# Altium footprint library EM411-202401-RMC001-000-20240213-T10.PcbLib: 39 footprints (part 2 of 3)
Each footprint in its own frame and in the unit in brackets; x right, y up, seen from the top. Pads: shape width x height; smd on the part's side, far side on the other; paste and mask are expansions set on the pad; w line width, h text height; cw(c..) or ccw(c..) is an arc to the next point about the centre after c.
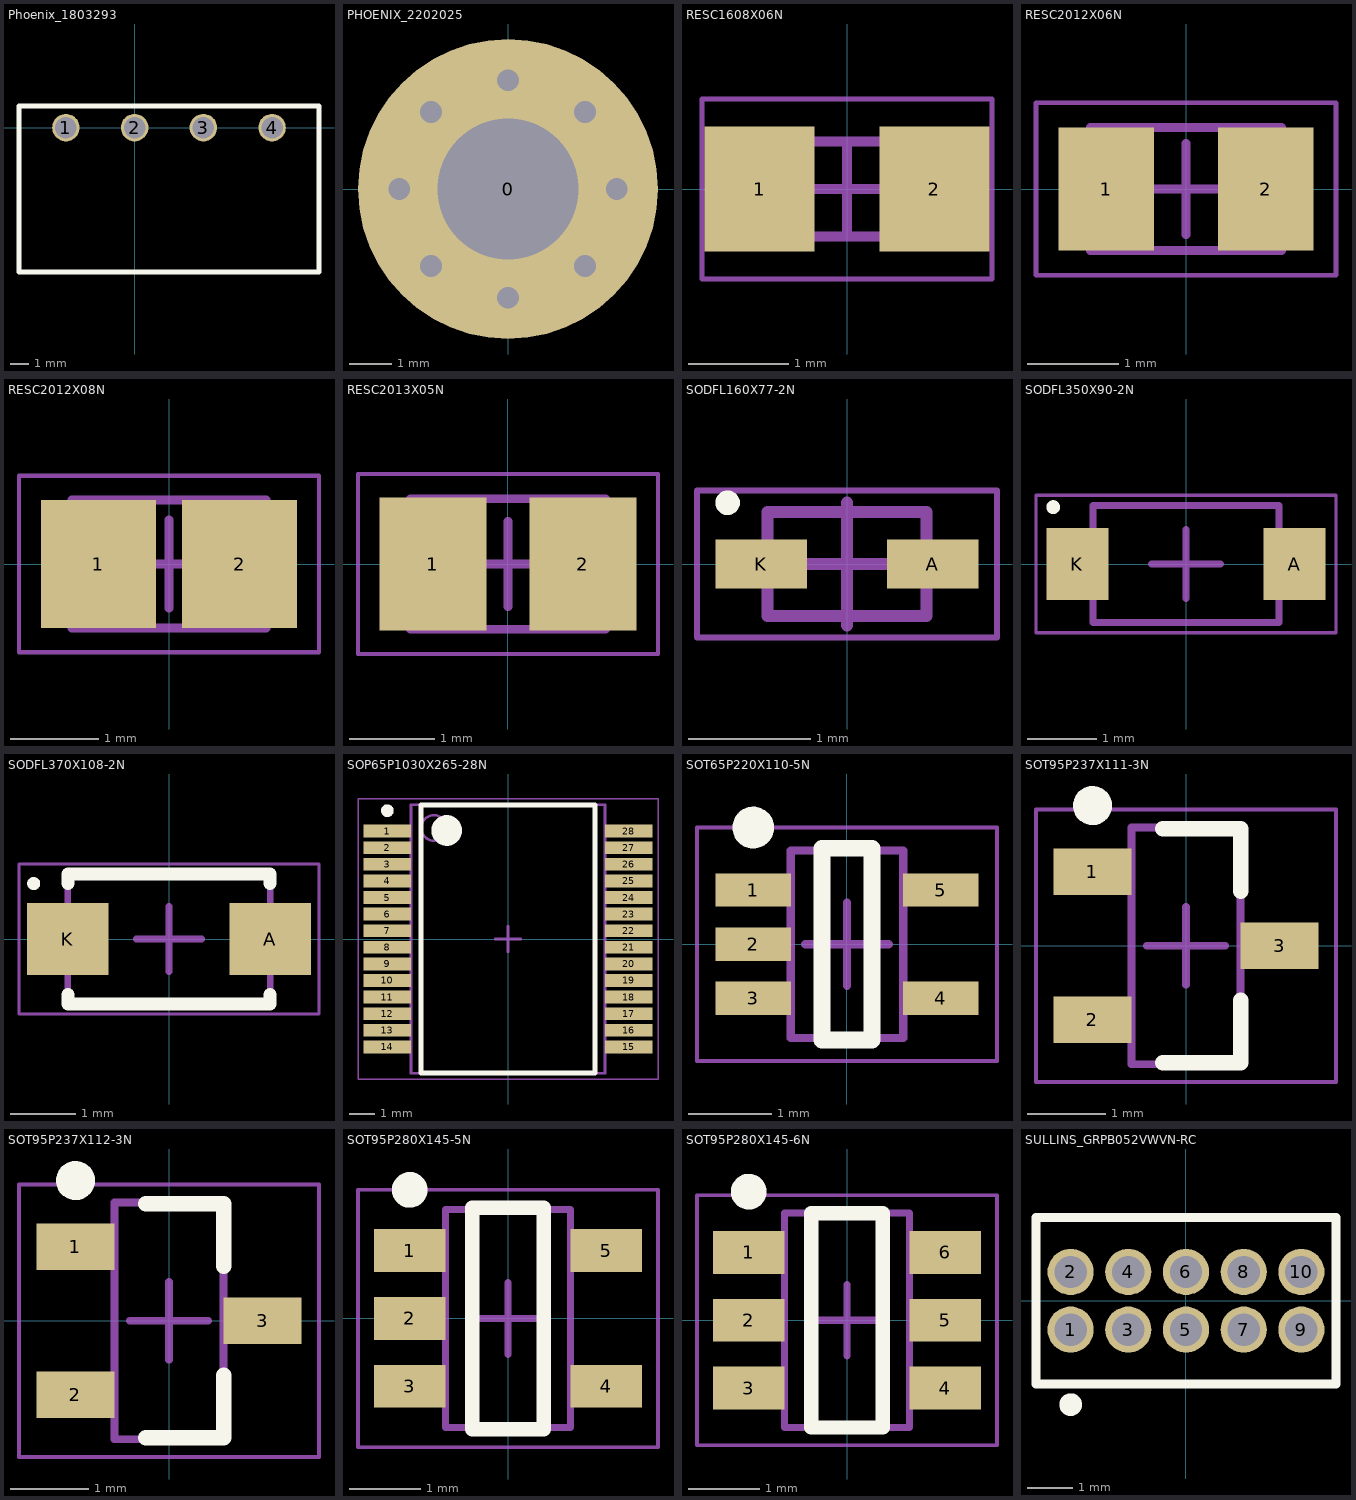
[diagram p1: the footprints below, top view; thin cyan lines are the x and y axes]

## Phoenix_1803293 [mil]
pads (4):
  round 60 hole 47.24: 1(-150,0) 2(0,0) 3(150,0) 4(300,0)
Top Overlay:
  lines w10: -252.36,-314.96 -252.36,47.24 402.36,47.24 402.36,-314.96 -252.36,-314.96
3D body "pxc_1803293_05_01_MC-1-5-4-G-3-81_3D.stp": height 285.43, standoff -133.86, extent -251.57,-315.94 403.15,46.26

## PHOENIX_2202025 [mm] "PE Contact Level 1"
height 8
pads (1):
  round 7 hole 3.3: 0(0,0)
via 0,2.54 diameter 1.016 hole 0.508
via 1.796,1.796 diameter 1.016 hole 0.508
via -2.54,0 diameter 1.016 hole 0.508
via -1.796,1.796 diameter 1.016 hole 0.508
via 0,-2.54 diameter 1.016 hole 0.508
via -1.796,-1.796 diameter 1.016 hole 0.508
via 2.54,0 diameter 1.016 hole 0.508
via 1.796,-1.796 diameter 1.016 hole 0.508

## RESC1608X06N [mm] "Chip Resistor, 2-Leads, Body 1.60x0.85mm, IPC Medium Density"
height 0.55
pads (2):
  rect 1.1x1.25 smd: 1(-0.875,0) 2(0.875,0)
Top Courtyard:
  lines w0.05: -1.45,-0.9 1.45,-0.9 1.45,0.9 -1.45,0.9 -1.45,-0.9
  lines w0.1: -0.475,0 0.475,0 ; 0,-0.475 0,0.475
Mechanical 13:
  lines w0.1: -0.85,-0.475 0.85,-0.475 0.85,0.475 -0.85,0.475 -0.85,-0.475
3D body "RESC1608X06N.step": height 0.55, standoff 0, extent -0.85,-0.475 0.85,0.475

## RESC2012X06N [mm] "Chip Resistor, 2-Leads, Body 2.00x1.25mm, IPC Medium Density"
height 0.6
pads (2):
  rect 1.05x1.35 smd: 1(-0.875,0) 2(0.875,0)
Top Courtyard:
  lines w0.05: -1.65,-0.95 -1.65,0.95 1.65,0.95 1.65,-0.95 -1.65,-0.95
  lines w0.1: -0.5,0 0.5,0 ; 0,-0.5 0,0.5
Mechanical 13:
  lines w0.1: -1.05,-0.675 -1.05,0.675 1.05,0.675 1.05,-0.675 -1.05,-0.675
3D body "RESC2012X06N.step": height 0.6, standoff 0, extent -1.05,-0.675 1.05,0.675

## RESC2012X08N [mm] "Chip Resistor, 2-Leads, Body 2.00x1.25mm, IPC Medium Density"
height 0.75
pads (2):
  rect 1.3x1.45 smd: 1(-0.8,0) 2(0.8,0)
Top Courtyard:
  lines w0.05: -1.7,-1 -1.7,1 1.7,1 1.7,-1 -1.7,-1
  lines w0.1: -0.5,0 0.5,0 ; 0,-0.5 0,0.5
Mechanical 13:
  lines w0.1: -1.1,-0.725 -1.1,0.725 1.1,0.725 1.1,-0.725 -1.1,-0.725
3D body "RESC2012X08N.step": height 0.75, standoff 0, extent -1.1,-0.725 1.1,0.725

## RESC2013X05N [mm] "Chip Resistor, 2-Leads, Body 2.03x1.32mm, IPC Medium Density"
height 0.54
pads (2):
  rect 1.25x1.55 smd: 1(-0.875,0) 2(0.875,0)
Top Courtyard:
  lines w0.05: -1.75,-1.05 1.75,-1.05 1.75,1.05 -1.75,1.05 -1.75,-1.05
  lines w0.1: -0.5,0 0.5,0 ; 0,-0.5 0,0.5
Mechanical 13:
  lines w0.1: -1.14,-0.76 1.14,-0.76 1.14,0.76 -1.14,0.76 -1.14,-0.76
3D body "RESC2013X05N.step": height 0.53, standoff 0, extent -1.14,-0.76 1.14,0.76

## SODFL160X77-2N [mm] "SODFL, 2-Leads, Body 0.80x1.60mm, IPC Medium Density"
height 0.77
pads (2):
  rect 0.75x0.4 smd: A(0.7,0) K(-0.7,0)
Top Overlay:
  circle w0.1: c-0.975,0.5 r0.05
Top Courtyard:
  lines w0.05: -1.225,-0.6 -1.225,0.6 1.225,0.6 1.225,-0.6 -1.225,-0.6
  lines w0.1: -0.5,0 0.5,0 ; 0,-0.5 0,0.5
Mechanical 13:
  lines w0.1: -0.65,-0.425 -0.65,0.425 0.65,0.425 0.65,-0.425 -0.65,-0.425
3D body "SODFL160X77-2N.step": height 0.77, standoff 0, extent -0.8,-0.425 0.8,0.425

## SODFL350X90-2N [mm] "SODFL, 2-Leads, Body 1.60x3.50mm, IPC Medium Density"
height 0.9
pads (2):
  rect 0.9x1.05 smd: A(1.575,0) K(-1.575,0)
Top Overlay:
  circle w0.1: c-1.925,0.825 r0.05
Top Courtyard:
  lines w0.05: -2.175,-1 2.175,-1 2.175,1 -2.175,1 -2.175,-1
  lines w0.1: -0.5,0 0.5,0 ; 0,-0.5 0,0.5
Mechanical 13:
  lines w0.1: -1.35,-0.85 1.35,-0.85 1.35,0.85 -1.35,0.85 -1.35,-0.85
3D body "SODFL350X90-2N.step": height 0.9, standoff 0, extent -1.75,-0.85 1.75,0.85

## SODFL370X108-2N [mm] "SODFL, 2-Leads, Body 1.85x3.70mm, IPC Medium Density"
height 1.08
pads (2):
  rect 1.25x1.1 smd: A(1.55,0) K(-1.55,0)
Top Overlay:
  circle w0.1: c-2.075,0.85 r0.05
  lines w0.2: -1.55,-0.85 -1.55,-1 1.55,-1 1.55,-0.85 ; -1.55,0.85 -1.55,1 1.55,1 1.55,0.85
Top Courtyard:
  lines w0.05: -2.3,-1.15 -2.3,1.15 2.3,1.15 2.3,-1.15 -2.3,-1.15
  lines w0.1: -0.5,0 0.5,0 ; 0,-0.5 0,0.5
Mechanical 13:
  lines w0.1: -1.55,-1 -1.55,1 1.55,1 1.55,-1 -1.55,-1
3D body "SODFL370X108-2N.step": height 1.08, standoff 0, extent -1.85,-1 1.85,1

## SOP65P1030X265-28N [mm] "SOP, 28-Leads, Body 10.30x7.50mm, Pitch 0.65mm, IPC Medium Density"
height 2.65
pads (28):
  rect 1.85x0.5 smd: 1(-4.725,4.225) 2(-4.725,3.575) 3(-4.725,2.925) 4(-4.725,2.275) 5(-4.725,1.625) 6(-4.725,0.975) 7(-4.725,0.325) 8(-4.725,-0.325) 9(-4.725,-0.975) 10(-4.725,-1.625) 11(-4.725,-2.275) 12(-4.725,-2.925) 13(-4.725,-3.575) 14(-4.725,-4.225) 15(4.725,-4.225) 16(4.725,-3.575) 17(4.725,-2.925) 18(4.725,-2.275) 19(4.725,-1.625) 20(4.725,-0.975) 21(4.725,-0.325) 22(4.725,0.325) 23(4.725,0.975) 24(4.725,1.625) 25(4.725,2.275) 26(4.725,2.925) 27(4.725,3.575) 28(4.725,4.225)
Top Overlay:
  circle w0.25: c-4.725,5.025 r0.125
  circle w0.6: c-2.4,4.25 r0.3
  lines w0.2: -3.4,-5.25 -3.4,5.25 3.4,5.25 3.4,-5.25 -3.4,-5.25
Top Courtyard:
  lines w0.05: -5.875,-5.5 -5.875,5.5 5.875,5.5 5.875,-5.5 -5.875,-5.5
  lines w0.1: -0.5,0 0.5,0 ; 0,-0.5 0,0.5
Mechanical 13:
  circle w0.1: c-2.9,4.35 r0.5
  lines w0.1: -3.8,-5.25 -3.8,5.25 3.8,5.25 3.8,-5.25 -3.8,-5.25
3D body "SOP65P1030X265-28N.step": height 2.65, standoff 0, extent -5.15,-5.25 5.15,5.25

## SOT65P220X110-5N [mm] "SOT23, 5-Leads, Body 2.05x2.20mm, Pitch 0.65mm, IPC Medium Density"
height 1.1
pads (5):
  rect 0.9x0.4 smd: 1(-1.125,0.65) 2(-1.125,0) 3(-1.125,-0.65) 4(1.125,-0.65) 5(1.125,0.65)
Top Overlay:
  circle w0.25: c-1.125,1.4 r0.125
  lines w0.2: -0.3,-1.15 0.3,-1.15 0.3,1.15 -0.3,1.15 -0.3,-1.15
Top Courtyard:
  lines w0.05: -1.8,-1.4 -1.8,1.4 1.8,1.4 1.8,-1.4 -1.8,-1.4
  lines w0.1: -0.5,0 0.5,0 ; 0,-0.5 0,0.5
Mechanical 13:
  lines w0.1: -0.675,-1.125 -0.675,1.125 0.675,1.125 0.675,-1.125 -0.675,-1.125
3D body "SOT65P220X110-5N.step": height 1.1, standoff 0, extent -1.2,-1.125 1.2,1.125

## SOT95P237X111-3N [mm] "SOT23, 3-Leads, Body 2.92x2.37mm, Pitch 0.95mm, IPC Medium Density"
height 1.11
pads (3):
  rect 1x0.6 smd: 1(-1.2,0.95) 2(-1.2,-0.95) 3(1.2,0)
Top Overlay:
  circle w0.25: c-1.2,1.8 r0.125
  lines w0.2: -0.3,-1.5 0.7,-1.5 0.7,-0.7 ; -0.3,1.5 0.7,1.5 0.7,0.7
Top Courtyard:
  lines w0.05: -1.925,-1.75 -1.925,1.75 1.925,1.75 1.925,-1.75 -1.925,-1.75
  lines w0.1: -0.5,0 0.5,0 ; 0,-0.5 0,0.5
Mechanical 13:
  lines w0.1: -0.7,-1.52 -0.7,1.52 0.7,1.52 0.7,-1.52 -0.7,-1.52
3D body "SOT95P237X111-3N.step": height 1.11, standoff 0, extent -1.32,-1.52 1.32,1.52

## SOT95P237X112-3N [mm] "SOT23, 3-Leads, Body 2.92x2.37mm, Pitch 0.95mm, IPC Medium Density"
height 1.12
pads (3):
  rect 1x0.6 smd: 1(-1.2,0.95) 2(-1.2,-0.95) 3(1.2,0)
Top Overlay:
  circle w0.25: c-1.2,1.8 r0.125
  lines w0.2: -0.3,-1.5 0.7,-1.5 0.7,-0.7 ; -0.3,1.5 0.7,1.5 0.7,0.7
Top Courtyard:
  lines w0.05: -1.925,-1.75 1.925,-1.75 1.925,1.75 -1.925,1.75 -1.925,-1.75
  lines w0.1: -0.5,0 0.5,0 ; 0,-0.5 0,0.5
Mechanical 13:
  lines w0.1: -0.7,-1.52 0.7,-1.52 0.7,1.52 -0.7,1.52 -0.7,-1.52
3D body "SOT95P237X112-3N.step": height 1.12, standoff 0, extent -1.37,-1.52 1.37,1.52

## SOT95P280X145-5N [mm] "SOT23, 5-Leads, Body 2.90x2.80mm, Pitch 0.95mm, IPC Medium Density"
height 1.45
pads (5):
  rect 1x0.6 smd: 1(-1.375,0.95) 2(-1.375,0) 3(-1.375,-0.95) 4(1.375,-0.95) 5(1.375,0.95)
Top Overlay:
  circle w0.25: c-1.375,1.8 r0.125
  lines w0.2: -0.5,-1.55 -0.5,1.55 0.5,1.55 0.5,-1.55 -0.5,-1.55
Top Courtyard:
  lines w0.05: -2.1,-1.8 2.1,-1.8 2.1,1.8 -2.1,1.8 -2.1,-1.8
  lines w0.1: -0.5,0 0.5,0 ; 0,-0.5 0,0.5
Mechanical 13:
  lines w0.1: -0.875,-1.525 0.875,-1.525 0.875,1.525 -0.875,1.525 -0.875,-1.525
3D body "SOT95P280X145-5N.step": height 1.45, standoff 0, extent -1.5,-1.525 1.5,1.525

## SOT95P280X145-6N [mm] "SOT23, 6-Leads, Body 2.90x2.80mm, Pitch 0.95mm, IPC Medium Density"
height 1.45
pads (6):
  rect 1x0.6 smd: 1(-1.375,0.95) 2(-1.375,0) 3(-1.375,-0.95) 4(1.375,-0.95) 5(1.375,0) 6(1.375,0.95)
Top Overlay:
  circle w0.25: c-1.375,1.8 r0.125
  lines w0.2: -0.5,-1.5 -0.5,1.5 0.5,1.5 0.5,-1.5 -0.5,-1.5
Top Courtyard:
  lines w0.05: -2.1,-1.75 2.1,-1.75 2.1,1.75 -2.1,1.75 -2.1,-1.75
  lines w0.1: -0.5,0 0.5,0 ; 0,-0.5 0,0.5
Mechanical 13:
  lines w0.1: -0.875,-1.5 0.875,-1.5 0.875,1.5 -0.875,1.5 -0.875,-1.5
3D body "SOT95P280X145-6N.step": height 1.45, standoff 0, extent -1.5,-1.5 1.5,1.5

## SULLINS_GRPB052VWVN-RC [mil] "CONN HEADER VERT 10POS 1.27MM"
height 157.48
pads (10):
  round 40 hole 28: 1(-100,-25) 2(-100,25) 3(-50,-25) 4(-50,25) 5(0,-25) 6(0,25) 7(50,-25) 8(50,25) 9(100,-25) 10(100,25)
Top Overlay:
  circle w9.84: c-100,-90 r4.92
  lines w7.87: -130,-72 130,-72 130,72 -130,72 -130,-72
3D body "FTS-105-01-L-D.stp": height 154, standoff -90, extent -125,-67.5 125,67.5